# EAGLE library part 4041 (library 40xxDIN)
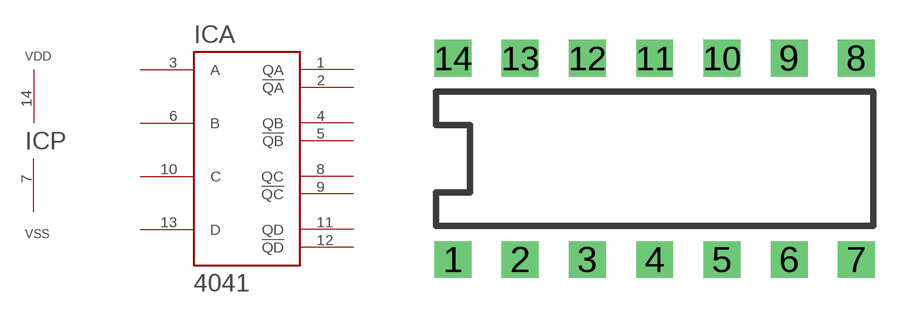
[diagram p26: symbol with the pads of DIL14; footprint DIL14]

Designator prefix IC; gates A=4041 P=PWRN

## 4041  [DIL14]
1  A:QA  out
2  A:!QA  out
3  A:A  in
4  A:QB  out
5  A:!QB  out
6  A:B  in
7  P:VSS  pwr
8  A:QC  out
9  A:!QC  out
10  A:C  in
11  A:QD  out
12  A:!QD  out
13  A:D  in
14  P:VDD  pwr

## Footprint DIL14 (pad centres in mm)
drill 0.8 pad 1.397 square: 1 0,0; 2 2.54,0; 3 5.08,0; 4 7.62,0; 5 10.16,0; 6 12.7,0; 7 15.24,0; 8 15.24,7.62; 9 12.7,7.62; 10 10.16,7.62; 11 7.62,7.62; 12 5.08,7.62; 13 2.54,7.62; 14 0,7.62